# Altium integrated library WE-PoE+ Power over Ethernet Plus Transformer.IntLib: 10 symbols
Pins are listed as number, name and electrical type; pins without a type are passive.

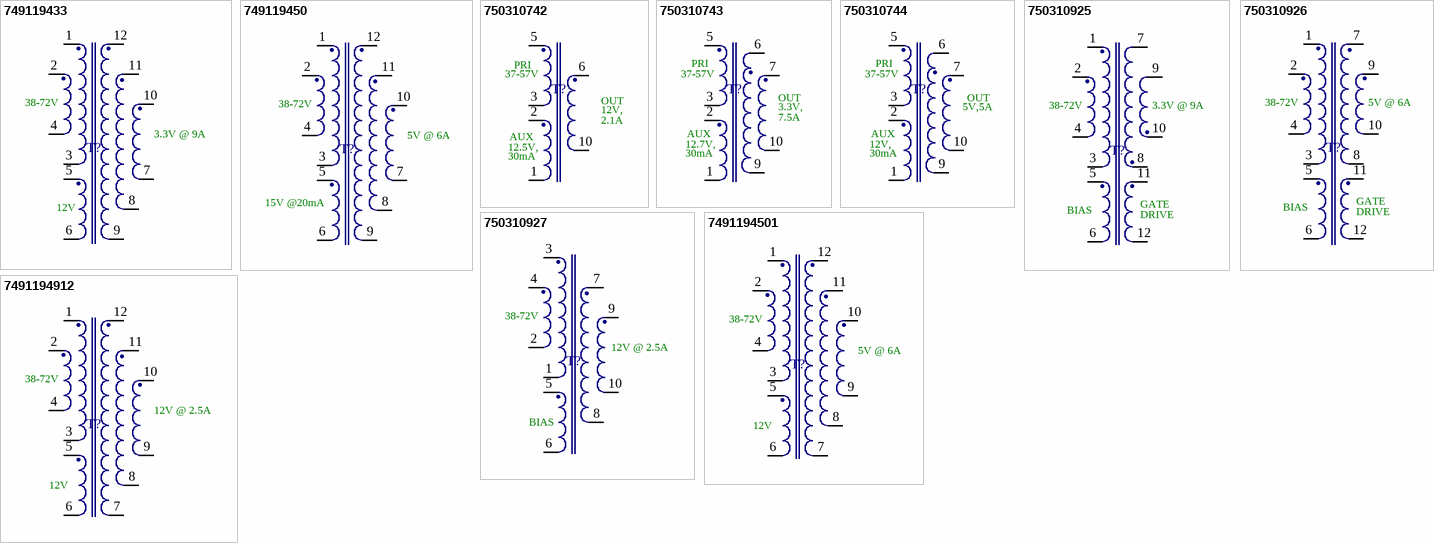
[diagram p0: symbols 749119433 to 7491194912]

## 749119433
designator T?
Power over Ethernet Plus Transformer WE-PoE+ , Ui=36-72V; PartNumber: 749119433; Ui: 36-72V; PackageReference: EFD20; ComponentLink1Description: Manufacturer URL; ComponentLink1URL: http://www.we-online.com; ComponentLink2Description: Datasheet; ComponentLink2URL: http://katalog.we-online.de/pbs/datasheet/749119433.pdf
footprint EFD20 (SMD, 10-Leads, Body 22.0x20.0mm (max), Pitch 3.75mm, IPC Medium Density)
pins: 1, 2, 3, 4, 5, 6, 7, 8, 9, 10, 11, 12
text: 38-72V; 3.3V @ 9A; 12V

## 749119450
designator T?
Power over Ethernet Plus Transformer WE-PoE+ , Ui=36-72V; PartNumber: 749119450; Ui: 36-72V; PackageReference: EFD20; ComponentLink1Description: Manufacturer URL; ComponentLink1URL: http://www.we-online.com; ComponentLink2Description: Datasheet; ComponentLink2URL: http://katalog.we-online.de/pbs/datasheet/749119450.pdf
footprint EFD20 (SMD, 10-Leads, Body 22.0x20.0mm (max), Pitch 3.75mm, IPC Medium Density)
pins: 1, 2, 3, 4, 5, 6, 7, 8, 9, 10, 11, 12
text: 38-72V; 5V @ 6A; 15V @20mA

## 750310742
designator T?
Power over Ethernet Plus Transformer WE-PoE+ , Ui=37-57V; PartNumber: 750310742; Ui: 37-57V; PackageReference: EP13; ComponentLink1Description: Manufacturer URL; ComponentLink1URL: http://www.we-online.com; ComponentLink2Description: Datasheet; ComponentLink2URL: http://katalog.we-online.de/pbs/datasheet/750310742.pdf
footprint EP13 (SMD, 10-Leads, Body 13.5x14.0mm (max), Pitch 2.48mm, IPC Medium Density)
pins: 1, 2, 3, 5, 6, 10
text: PRI; OUT; 12V,; 2.1A; AUX; 12.5V,; 30mA

## 750310743
designator T?
Power over Ethernet Plus Transformer WE-PoE+ , Ui=37-57V; PartNumber: 750310743; Ui: 37-57V; PackageReference: EP13; ComponentLink1Description: Manufacturer URL; ComponentLink1URL: http://www.we-online.com; ComponentLink2Description: Datasheet; ComponentLink2URL: http://katalog.we-online.de/pbs/datasheet/750310743.pdf
footprint EP13 (SMD, 10-Leads, Body 13.5x14.0mm (max), Pitch 2.48mm, IPC Medium Density)
pins: 1, 2, 3, 5, 6, 7, 9, 10
text: PRI; OUT; 3.3V,; 7.5A; AUX; 12.7V,; 30mA

## 750310744
designator T?
Power over Ethernet Plus Transformer WE-PoE+ , Ui=37-57V; PartNumber: 750310744; Ui: 37-57V; PackageReference: EP13; ComponentLink1Description: Manufacturer URL; ComponentLink1URL: http://www.we-online.com; ComponentLink2Description: Datasheet; ComponentLink2URL: http://katalog.we-online.de/pbs/datasheet/750310744.pdf
footprint EP13 (SMD, 10-Leads, Body 13.5x14.0mm (max), Pitch 2.48mm, IPC Medium Density)
pins: 1, 2, 3, 5, 6, 7, 9, 10
text: PRI; OUT; 5V,; 5A; AUX; 12V,; 30mA

## 750310925
designator T?
Power over Ethernet Plus Transformer WE-PoE+ , Ui=36-72V; PartNumber: 750310925; Ui: 36-72V; PackageReference: EFD20; ComponentLink1Description: Manufacturer URL; ComponentLink1URL: http://www.we-online.com; ComponentLink2Description: Datasheet; ComponentLink2URL: http://katalog.we-online.de/pbs/datasheet/750310925.pdf
footprint EFD20 (SMD, 10-Leads, Body 22.0x20.0mm (max), Pitch 3.75mm, IPC Medium Density)
pins: 1, 2, 3, 4, 5, 6, 7, 8, 9, 10, 11, 12
text: 38-72V; 3.3V @ 9A; GATE; BIAS; DRIVE

## 750310926
designator T?
Power over Ethernet Plus Transformer WE-PoE+ , Ui=36-72V; PartNumber: 750310926; Ui: 36-72V; PackageReference: EFD20; ComponentLink1Description: Manufacturer URL; ComponentLink1URL: http://www.we-online.com; ComponentLink2Description: Datasheet; ComponentLink2URL: http://katalog.we-online.de/pbs/datasheet/750310926.pdf
footprint EFD20 (SMD, 10-Leads, Body 22.0x20.0mm (max), Pitch 3.75mm, IPC Medium Density)
pins: 1, 2, 3, 4, 5, 6, 7, 8, 9, 10, 11, 12
text: 38-72V; 5V @ 6A; GATE; BIAS; DRIVE

## 750310927
designator T?
Power over Ethernet Plus Transformer WE-PoE+ , Ui=36-72V; PartNumber: 750310927; Ui: 36-72V; PackageReference: EFD20; ComponentLink1Description: Manufacturer URL; ComponentLink1URL: http://www.we-online.com; ComponentLink2Description: Datasheet; ComponentLink2URL: http://katalog.we-online.de/pbs/datasheet/750310927.pdf
footprint EFD20 (SMD, 10-Leads, Body 22.0x20.0mm (max), Pitch 3.75mm, IPC Medium Density)
pins: 1, 2, 3, 4, 5, 6, 7, 8, 9, 10
text: 38-72V; 12V @ 2.5A; BIAS

## 7491194501
designator T?
Power over Ethernet Plus Transformer WE-PoE+ , Ui=36-72V; PartNumber: 7491194501; Ui: 36-72V; PackageReference: EFD20; ComponentLink1Description: Manufacturer URL; ComponentLink1URL: http://www.we-online.com; ComponentLink2Description: Datasheet; ComponentLink2URL: http://katalog.we-online.de/pbs/datasheet/7491194501.pdf
footprint EFD20 (SMD, 10-Leads, Body 22.0x20.0mm (max), Pitch 3.75mm, IPC Medium Density)
pins: 1, 2, 3, 4, 5, 6, 7, 8, 9, 10, 11, 12
text: 38-72V; 5V @ 6A; 12V

## 7491194912
designator T?
Power over Ethernet Plus Transformer WE-PoE+ , Ui=36-72V; PartNumber: 7491194912; Ui: 36-72V; PackageReference: EFD20; ComponentLink1Description: Manufacturer URL; ComponentLink1URL: http://www.we-online.com; ComponentLink2Description: Datasheet; ComponentLink2URL: http://katalog.we-online.de/pbs/datasheet/7491194912.pdf
footprint EFD20 (SMD, 10-Leads, Body 22.0x20.0mm (max), Pitch 3.75mm, IPC Medium Density)
pins: 1, 2, 3, 4, 5, 6, 7, 8, 9, 10, 11, 12
text: 38-72V; 12V @ 2.5A; 12V